# Altium schematic symbol library Schlib.SchLib: 8 symbols
Pins are listed as number, name and electrical type; pins without a type are passive.

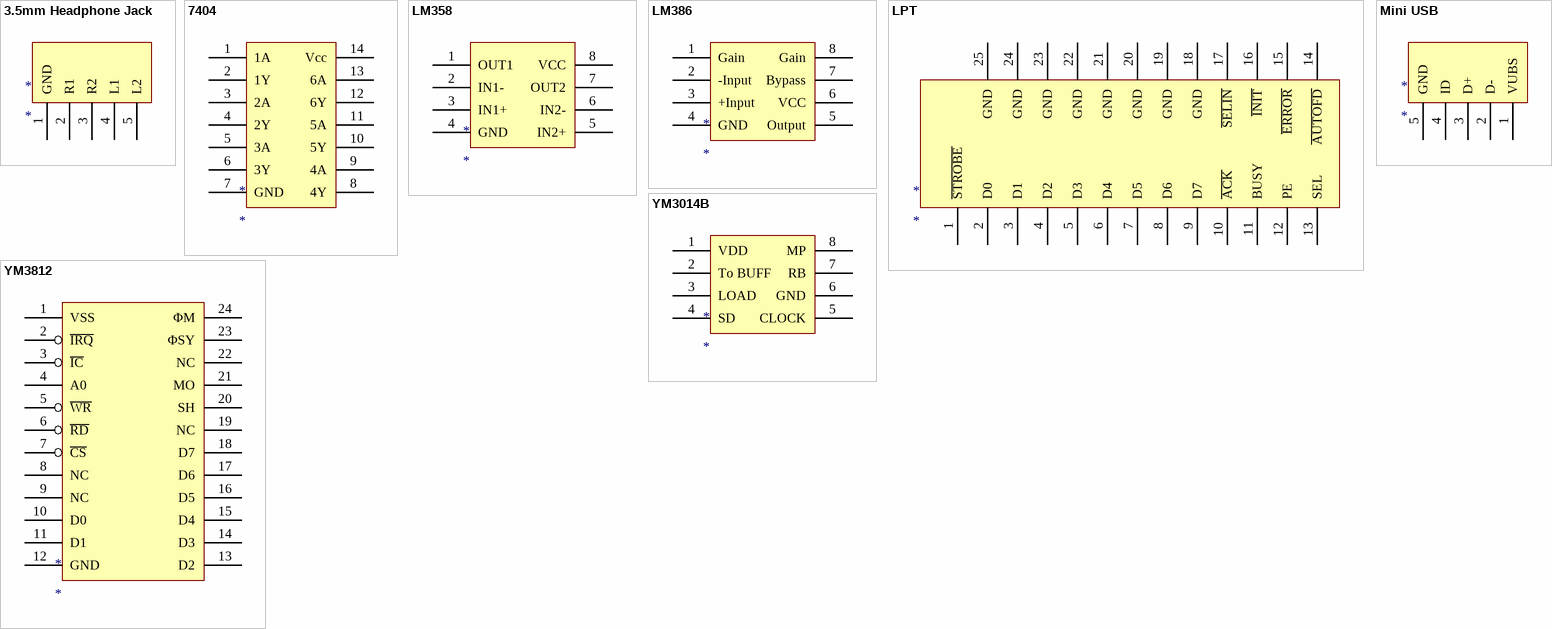
[diagram p0: symbols 3.5mm Headphone Jack to YM3812]

## 3.5mm Headphone Jack
designator *
pins: 1 GND, 2 R1, 3 R2, 4 L1, 5 L2

## 7404
designator *
pins: 1 1A, 2 1Y, 3 2A, 4 2Y, 5 3A, 6 3Y, 7 GND, 8 4Y, 9 4A, 10 5Y, 11 5A, 12 6Y, 13 6A, 14 Vcc

## LM358
designator *
pins: 1 OUT1, 2 IN1-, 3 IN1+, 4 GND, 5 IN2+, 6 IN2-, 7 OUT2, 8 VCC

## LM386
designator *
pins: 1 Gain, 2 -Input, 3 +Input, 4 GND, 5 Output, 6 VCC, 7 Bypass, 8 Gain

## LPT
designator *
pins: 1 ~{STROBE}, 2 D0, 3 D1, 4 D2, 5 D3, 6 D4, 7 D5, 8 D6, 9 D7, 10 ~{ACK}, 11 BUSY, 12 PE, 13 SEL, 14 ~{AUTOFD}, 15 ~{ERROR}, 16 ~{INIT}, 17 ~{SELIN}, 18 GND, 19 GND, 20 GND, 21 GND, 22 GND, 23 GND, 24 GND, 25 GND

## Mini USB
designator *
pins: 1 VUBS, 2 D-, 3 D+, 4 ID, 5 GND

## YM3014B
designator *
pins: 1 VDD, 2 To BUFF, 3 LOAD, 4 SD, 5 CLOCK, 6 GND, 7 RB, 8 MP

## YM3812
designator *
pins: 1 VSS, 2 ~{IRQ}, 3 ~{IC}, 4 A0, 5 ~{WR}, 6 ~{RD}, 7 ~{CS}, 8 NC, 9 NC, 10 D0, 11 D1, 12 GND, 13 D2, 14 D3, 15 D4, 16 D5, 17 D6, 18 D7, 19 NC, 20 SH, 21 MO, 22 NC, 23 ΦSY, 24 ΦM